# EAGLE library part SMD-EDGE8 (library dec-con)
Quad-Height Board Extender Pads
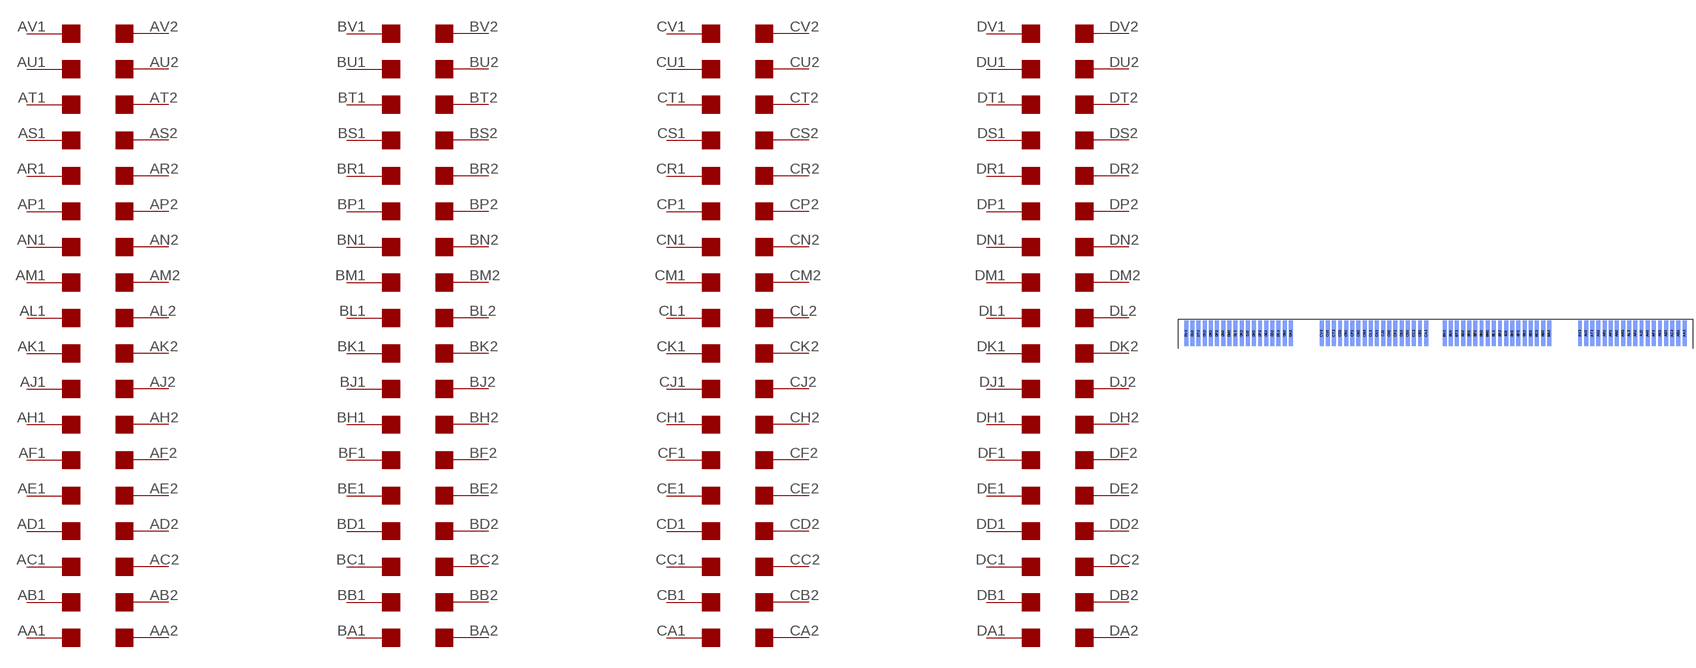
[diagram p110: symbol with the pads of SMD-EDGE8; footprint SMD-EDGE8]

Designator prefix U; gates AL2=EDGE-RIGHT AM2=EDGE-RIGHT AN2=EDGE-RIGHT AP2=EDGE-RIGHT AR2=EDGE-RIGHT AS2=EDGE-RIGHT AT2=EDGE-RIGHT AK2=EDGE-RIGHT AJ2=EDGE-RIGHT AH2=EDGE-RIGHT AF2=EDGE-RIGHT AE2=EDGE-RIGHT AD2=EDGE-RIGHT AC2=EDGE-RIGHT AU2=EDGE-RIGHT AV2=EDGE-RIGHT AB2=EDGE-RIGHT AA2=EDGE-RIGHT AK1=EDGE-LEFT AL1=EDGE-LEFT AM1=EDGE-LEFT AN1=EDGE-LEFT AP1=EDGE-LEFT AR1=EDGE-LEFT AS1=EDGE-LEFT AT1=EDGE-LEFT AU1=EDGE-LEFT AV1=EDGE-LEFT AJ1=EDGE-LEFT AH1=EDGE-LEFT AF1=EDGE-LEFT AE1=EDGE-LEFT AD1=EDGE-LEFT AC1=EDGE-LEFT AB1=EDGE-LEFT AA1=EDGE-LEFT BV1=EDGE-LEFT BU1=EDGE-LEFT BT1=EDGE-LEFT BS1=EDGE-LEFT BR1=EDGE-LEFT BP1=EDGE-LEFT BN1=EDGE-LEFT BM1=EDGE-LEFT BL1=EDGE-LEFT BK1=EDGE-LEFT BJ1=EDGE-LEFT BH1=EDGE-LEFT BF1=EDGE-LEFT BE1=EDGE-LEFT BD1=EDGE-LEFT BC1=EDGE-LEFT BB1=EDGE-LEFT BA1=EDGE-LEFT BV2=EDGE-RIGHT BU2=EDGE-RIGHT BT2=EDGE-RIGHT BS2=EDGE-RIGHT BR2=EDGE-RIGHT BP2=EDGE-RIGHT BN2=EDGE-RIGHT BM2=EDGE-RIGHT BL2=EDGE-RIGHT BK2=EDGE-RIGHT BJ2=EDGE-RIGHT BH2=EDGE-RIGHT BF2=EDGE-RIGHT BE2=EDGE-RIGHT BD2=EDGE-RIGHT BC2=EDGE-RIGHT BB2=EDGE-RIGHT BA2=EDGE-RIGHT CV1=EDGE-LEFT CU1=EDGE-LEFT CT1=EDGE-LEFT CS1=EDGE-LEFT CR1=EDGE-LEFT CP1=EDGE-LEFT CN1=EDGE-LEFT CM1=EDGE-LEFT CL1=EDGE-LEFT CK1=EDGE-LEFT CJ1=EDGE-LEFT CH1=EDGE-LEFT CF1=EDGE-LEFT CE1=EDGE-LEFT CD1=EDGE-LEFT CC1=EDGE-LEFT CB1=EDGE-LEFT CA1=EDGE-LEFT DV1=EDGE-LEFT DU1=EDGE-LEFT DT1=EDGE-LEFT DS1=EDGE-LEFT DR1=EDGE-LEFT DP1=EDGE-LEFT DN1=EDGE-LEFT DM1=EDGE-LEFT DL1=EDGE-LEFT DK1=EDGE-LEFT DJ1=EDGE-LEFT DH1=EDGE-LEFT DF1=EDGE-LEFT DE1=EDGE-LEFT DD1=EDGE-LEFT DC1=EDGE-LEFT DB1=EDGE-LEFT DA1=EDGE-LEFT CV2=EDGE-RIGHT CU2=EDGE-RIGHT CT2=EDGE-RIGHT CS2=EDGE-RIGHT CR2=EDGE-RIGHT CP2=EDGE-RIGHT CN2=EDGE-RIGHT CM2=EDGE-RIGHT CL2=EDGE-RIGHT CK2=EDGE-RIGHT CJ2=EDGE-RIGHT CH2=EDGE-RIGHT CF2=EDGE-RIGHT CE2=EDGE-RIGHT CD2=EDGE-RIGHT CC2=EDGE-RIGHT CB2=EDGE-RIGHT CA2=EDGE-RIGHT DV2=EDGE-RIGHT DU2=EDGE-RIGHT DT2=EDGE-RIGHT DS2=EDGE-RIGHT DR2=EDGE-RIGHT DP2=EDGE-RIGHT DN2=EDGE-RIGHT DM2=EDGE-RIGHT DL2=EDGE-RIGHT DK2=EDGE-RIGHT DJ2=EDGE-RIGHT DH2=EDGE-RIGHT DF2=EDGE-RIGHT DE2=EDGE-RIGHT DD2=EDGE-RIGHT DC2=EDGE-RIGHT DB2=EDGE-RIGHT DA2=EDGE-RIGHT

## SMD-EDGE8  [SMD-EDGE8]
AA1  AA1:1
AA2  AA2:1
AB1  AB1:1
AB2  AB2:1
AC1  AC1:1
AC2  AC2:1
AD1  AD1:1
AD2  AD2:1
AE1  AE1:1
AE2  AE2:1
AF1  AF1:1
AF2  AF2:1
AH1  AH1:1
AH2  AH2:1
AJ1  AJ1:1
AJ2  AJ2:1
AK1  AK1:1
AK2  AK2:1
AL1  AL1:1
AL2  AL2:1
AM1  AM1:1
AM2  AM2:1
AN1  AN1:1
AN2  AN2:1
AP1  AP1:1
AP2  AP2:1
AR1  AR1:1
AR2  AR2:1
AS1  AS1:1
AS2  AS2:1
AT1  AT1:1
AT2  AT2:1
AU1  AU1:1
AU2  AU2:1
AV1  AV1:1
AV2  AV2:1
BA1  BA1:1
BA2  BA2:1
BB1  BB1:1
BB2  BB2:1
BC1  BC1:1
BC2  BC2:1
BD1  BD1:1
BD2  BD2:1
BE1  BE1:1
BE2  BE2:1
BF1  BF1:1
BF2  BF2:1
BH1  BH1:1
BH2  BH2:1
BJ1  BJ1:1
BJ2  BJ2:1
BK1  BK1:1
BK2  BK2:1
BL1  BL1:1
BL2  BL2:1
BM1  BM1:1
BM2  BM2:1
BN1  BN1:1
BN2  BN2:1
BP1  BP1:1
BP2  BP2:1
BR1  BR1:1
BR2  BR2:1
BS1  BS1:1
BS2  BS2:1
BT1  BT1:1
BT2  BT2:1
BU1  BU1:1
BU2  BU2:1
BV1  BV1:1
BV2  BV2:1
CA1  CA1:1
CA2  CA2:1
CB1  CB1:1
CB2  CB2:1
CC1  CC1:1
CC2  CC2:1
CD1  CD1:1
CD2  CD2:1
CE1  CE1:1
CE2  CE2:1
CF1  CF1:1
CF2  CF2:1
CH1  CH1:1
CH2  CH2:1
CJ1  CJ1:1
CJ2  CJ2:1
CK1  CK1:1
CK2  CK2:1
CL1  CL1:1
CL2  CL2:1
CM1  CM1:1
CM2  CM2:1
CN1  CN1:1
CN2  CN2:1
CP1  CP1:1
CP2  CP2:1
CR1  CR1:1
CR2  CR2:1
CS1  CS1:1
CS2  CS2:1
CT1  CT1:1
CT2  CT2:1
CU1  CU1:1
CU2  CU2:1
CV1  CV1:1
CV2  CV2:1
DA1  DA1:1
DA2  DA2:1
DB1  DB1:1
DB2  DB2:1
DC1  DC1:1
DC2  DC2:1
DD1  DD1:1
DD2  DD2:1
DE1  DE1:1
DE2  DE2:1
DF1  DF1:1
DF2  DF2:1
DH1  DH1:1
DH2  DH2:1
DJ1  DJ1:1
DJ2  DJ2:1
DK1  DK1:1
DK2  DK2:1
DL1  DL1:1
DL2  DL2:1
DM1  DM1:1
DM2  DM2:1
DN1  DN1:1
DN2  DN2:1
DP1  DP1:1
DP2  DP2:1
DR1  DR1:1
DR2  DR2:1
DS1  DS1:1
DS2  DS2:1
DT1  DT1:1
DT2  DT2:1
DU1  DU1:1
DU2  DU2:1
DV1  DV1:1
DV2  DV2:1

## Footprint SMD-EDGE8 (pad centres in mm)
Top edge of quad extender card
smd 2.032 x 13.106: AA1 261.303,7.938; AB1 258.127,7.938; AC1 254.952,7.938; AD1 251.778,7.938; AE1 248.602,7.938; AF1 245.428,7.938; AH1 242.252,7.938; AJ1 239.077,7.938; AK1 235.903,7.938; AL1 232.727,7.938; AM1 229.553,7.938; AN1 226.377,7.938; AP1 223.202,7.938; AR1 220.028,7.938; AS1 216.852,7.938; AT1 213.678,7.938; AU1 210.502,7.938; AV1 207.327,7.938; BA1 191.452,7.938; BB1 188.278,7.938; BC1 185.102,7.938; BD1 181.928,7.938; BE1 178.752,7.938; BF1 175.577,7.938; BH1 172.403,7.938; BJ1 169.227,7.938; BK1 166.053,7.938; BL1 162.877,7.938; BM1 159.702,7.938; BN1 156.528,7.938; BP1 153.352,7.938; BR1 150.178,7.938; BS1 147.002,7.938; BT1 143.827,7.938; BU1 140.653,7.938; BV1 137.477,7.938; CA1 127.953,7.938; CB1 124.778,7.938; CC1 121.603,7.938; CD1 118.427,7.938; CE1 115.252,7.938; CF1 112.078,7.938; CH1 108.903,7.938; CJ1 105.728,7.938; CK1 102.552,7.938; CL1 99.377,7.938; CM1 96.203,7.938; CN1 93.028,7.938; CP1 89.853,7.938; CR1 86.677,7.938; CS1 83.502,7.938; CT1 80.328,7.938; CU1 77.153,7.938; CV1 73.978,7.938; DA1 58.102,7.938; DB1 54.928,7.938; DC1 51.752,7.938; DD1 48.578,7.938; DE1 45.403,7.938; DF1 42.227,7.938; DH1 39.053,7.938; DJ1 35.877,7.938; DK1 32.703,7.938; DL1 29.527,7.938; DM1 26.352,7.938; DN1 23.177,7.938; DP1 20.003,7.938; DR1 16.828,7.938; DS1 13.652,7.938; DT1 10.477,7.938; DU1 7.303,7.938; DV1 4.128,7.938
smd 2.032 x 13.106 bottom: AA2 261.303,7.938; AB2 258.127,7.938; AC2 254.952,7.938; AD2 251.778,7.938; AE2 248.602,7.938; AF2 245.428,7.938; AH2 242.252,7.938; AJ2 239.077,7.938; AK2 235.903,7.938; AL2 232.727,7.938; AM2 229.553,7.938; AN2 226.377,7.938; AP2 223.202,7.938; AR2 220.028,7.938; AS2 216.852,7.938; AT2 213.678,7.938; AU2 210.502,7.938; AV2 207.327,7.938; BA2 191.452,7.938; BB2 188.278,7.938; BC2 185.102,7.938; BD2 181.928,7.938; BE2 178.752,7.938; BF2 175.577,7.938; BH2 172.403,7.938; BJ2 169.227,7.938; BK2 166.053,7.938; BL2 162.877,7.938; BM2 159.702,7.938; BN2 156.528,7.938; BP2 153.352,7.938; BR2 150.178,7.938; BS2 147.002,7.938; BT2 143.827,7.938; BU2 140.653,7.938; BV2 137.477,7.938; CA2 127.953,7.938; CB2 124.778,7.938; CC2 121.603,7.938; CD2 118.427,7.938; CE2 115.252,7.938; CF2 112.078,7.938; CH2 108.903,7.938; CJ2 105.728,7.938; CK2 102.552,7.938; CL2 99.377,7.938; CM2 96.203,7.938; CN2 93.028,7.938; CP2 89.853,7.938; CR2 86.677,7.938; CS2 83.502,7.938; CT2 80.328,7.938; CU2 77.153,7.938; CV2 73.978,7.938; DA2 58.102,7.938; DB2 54.928,7.938; DC2 51.752,7.938; DD2 48.578,7.938; DE2 45.403,7.938; DF2 42.227,7.938; DH2 39.053,7.938; DJ2 35.877,7.938; DK2 32.703,7.938; DL2 29.527,7.938; DM2 26.352,7.938; DN2 23.177,7.938; DP2 20.003,7.938; DR2 16.828,7.938; DS2 13.652,7.938; DT2 10.477,7.938; DU2 7.303,7.938; DV2 4.128,7.938